# Altium schematic symbol library AH1912.SchLib: 1 symbol
Pins are listed as number, name and electrical type; pins without a type are passive.

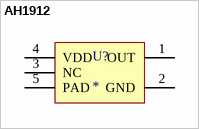
[diagram p0: symbol AH1912]

## AH1912
designator U?
pins: 1 OUT, 2 GND, 3 NC, 4 VDD, 5 PAD